# EAGLE library part TDA7052 (library rlc)
1 W BTL mono audio amplifier Datasheet <http://www.nxp.com/documents/data_sheet/TDA7052.pdf>
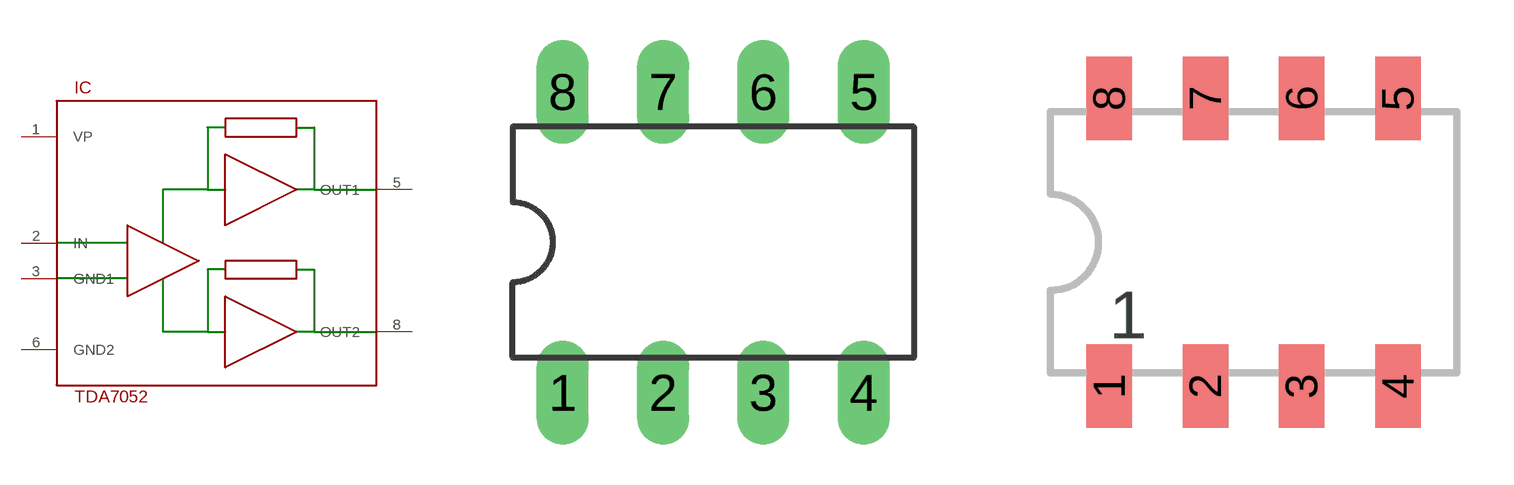
[diagram p6: symbol with the pads of DIL08; footprints DIL08, DIP8]

Designator prefix IC

## TDA7052PTH  [DIL08]
1  VP
2  IN
3  GND1
5  OUT1
6  GND2
8  OUT2

## TDA7052SMD  [DIP8]
Pads as for DIL08

## Footprint DIL08 (pad centres in mm)
Dual In Line Package
drill 0.813 long: 1 -3.81,-3.81; 2 -1.27,-3.81; 3 1.27,-3.81; 4 3.81,-3.81; 5 3.81,3.81; 6 1.27,3.81; 7 -1.27,3.81; 8 -3.81,3.81

## Footprint DIP8 (pad centres in mm)
SMD DIL08 dual in line package'
smd 1.2 x 2.2: 1 -3.81,-3.8; 2 -1.27,-3.8; 3 1.27,-3.8; 4 3.81,-3.8; 5 3.81,3.8; 6 1.27,3.8; 7 -1.27,3.8; 8 -3.81,3.8